# EAGLE library part MIDI_CONNECTOR (library MidiSwitchParts)
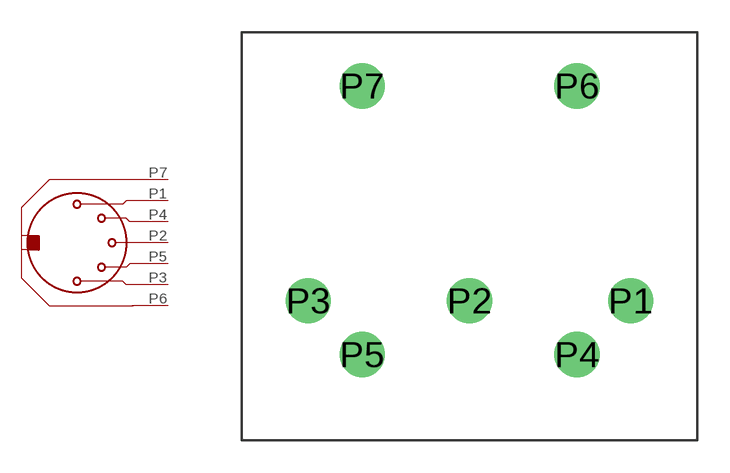
[diagram p0: symbol with the pads of MIDI_CONNECTOR_PAC; footprint MIDI_CONNECTOR_PAC]

Designator prefix -

## MIDI_CONNECTOR  [MIDI_CONNECTOR_PAC]
P1  P$1
P2  P$2
P3  P$3
P4  P$4
P5  P$5
P6  P$6
P7  P$7

## Footprint MIDI_CONNECTOR_PAC (pad centres in mm)
drill 1.4: P1 7.5,0; P2 0,0; P3 -7.5,0; P4 5,-2.5; P5 -5,-2.5; P6 5,10; P7 -5,10